# Altium schematic symbol library NEC_iEVENTSIM_OpticalInterrupter.SCHLIB: 1 symbol
Pins are listed as number, name and electrical type; pins without a type are passive.

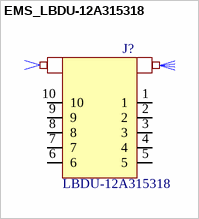
[diagram p0: symbol EMS_LBDU-12A315318]

## EMS_LBDU-12A315318
designator J?, comment value LBDU-12A315318  (hidden comment: LB Dual 1x2 Multimode Fiberoptic switch)
Manufacturer: Agiltron; Vendor Part Number: NA; Internal Part Number: EMS_LBDU-12A315318; 1st Auxiliary Field: 4.5-6 VDC; 2nd Auxiliary Field: 30-60mA; 3rd Auxiliary Field: 300-500mW; Temp Co: -0°C ~ 70°C; Vendor Name: Photonware corporation; Component Height (mm): 8.5 mm; Manufacturer Part Number: LBDU-12A315318; 4th Auxiliary Field: *; Part Type: LB Dual 1x2 Multimode Fiberoptic switch
footprint SW_LBDU-12A315318 (Footprint not found)
pins: 1, 2, 3, 4, 5, 6, 7, 8, 9, 10